# Altium footprint library Flex_ACM70V_CMRR_4A.PcbLib: 1 footprints
Each footprint in its own frame and in the unit in brackets; x right, y up, seen from the top. Pads: shape width x height; smd on the part's side, far side on the other; paste and mask are expansions set on the pad; w line width, h text height; cw(c..) or ccw(c..) is an arc to the next point about the centre after c.
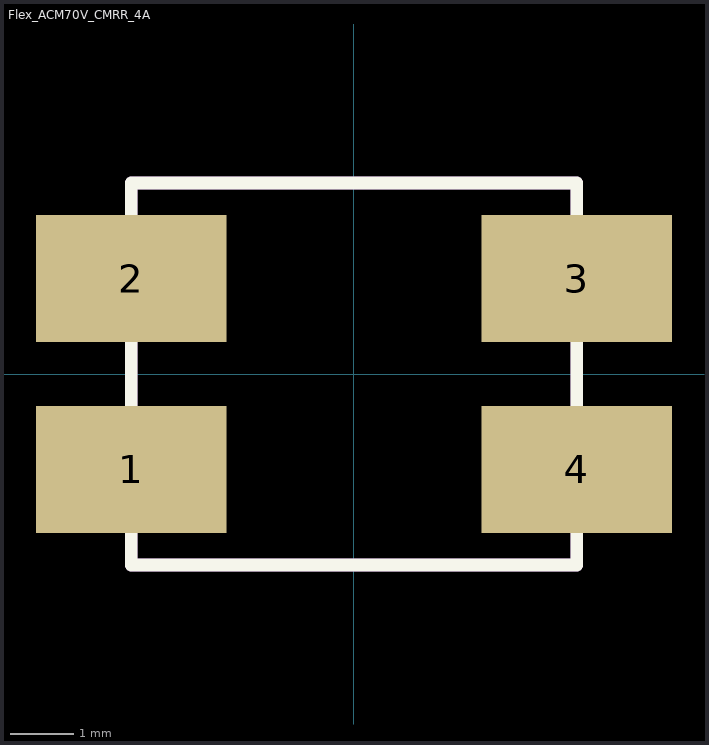
[diagram p0: the footprint, top view; thin cyan lines are the x and y axes]

## Flex_ACM70V_CMRR_4A [mm]
pads (4):
  rect 3x2 smd paste-0.2 mask-0.102: 1(-3.5,-1.5) 2(-3.5,1.5) 3(3.5,1.5) 4(3.5,-1.5)
Top Overlay:
  lines w0.2: -3.5,-2.5 -3.5,-3 3.5,-3 3.5,-2.5 ; -3.5,-0.5 -3.5,0.5 ; -3.5,2.5 -3.5,3 3.5,3 3.5,2.5 ; 3.5,-0.5 3.5,0.5
Mechanical 1:
  lines w0.2: -3.5,-2.5 -3.5,-3 3.5,-3 3.5,-2.5 ; -3.5,-0.5 -3.5,0.5 ; -3.5,2.5 -3.5,3 3.5,3 3.5,2.5 ; 3.5,-0.5 3.5,0.5
3D body: height 3.5, standoff 0, extent -3.6,-3.1 3.6,3.1